# Altium footprint library XILINX ARTIX-7 FPGA A704 Motherboard_CON.PcbLib: 2 footprints
Each footprint in its own frame and in the unit in brackets; x right, y up, seen from the top. Pads: shape width x height; smd on the part's side, far side on the other; paste and mask are expansions set on the pad; w line width, h text height; cw(c..) or ccw(c..) is an arc to the next point about the centre after c.
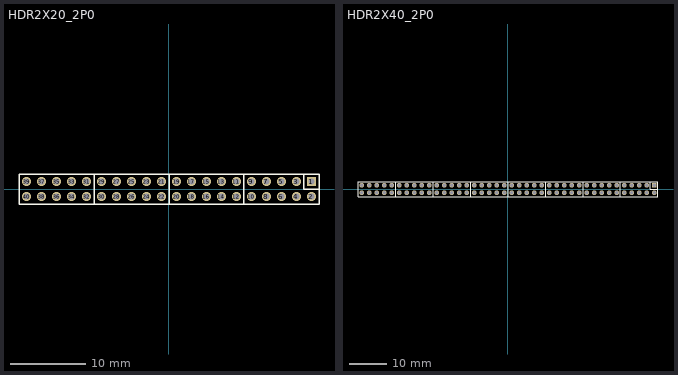
[diagram p0: the footprints below, top view; thin cyan lines are the x and y axes]

## HDR2X20_2P0 [mm] "HDR2X20_2P0"
pads (40):
  rect 1.2x1.2 hole 0.8: 1(19.005,1)
  round 1.2 hole 0.8: 2(19.005,-1) 3(17.005,1) 4(17.005,-1) 5(15.005,1) 6(15.005,-1) 7(13.005,1) 8(13.005,-1) 9(11.005,1) 10(11.005,-1) 11(9.005,1) 12(9.005,-1) 13(7.005,1) 14(7.005,-1) 15(5.005,1) 16(5.005,-1) 17(3.005,1) 18(3.005,-1) 19(1.005,1) 20(1.005,-1) 21(-0.995,1) 22(-0.995,-1) 23(-2.995,1) 24(-2.995,-1) 25(-4.995,1) 26(-4.995,-1) 27(-6.995,1) 28(-6.995,-1) 29(-8.995,1) 30(-8.995,-1) 31(-10.995,1) 32(-10.995,-1) 33(-12.995,1) 34(-12.995,-1) 35(-14.995,1) 36(-14.995,-1) 37(-16.995,1) 38(-16.995,-1) 39(-18.995,1) 40(-18.995,-1)
Top Overlay:
  lines w0.199: 18.005,0 20.005,0
  lines w0.2: -9.995,-2 -9.995,2 ; 0.005,-2 0.005,2 ; 10.005,-2 10.005,2 ; 18.005,0 18.005,2 ; -19.995,-2 -19.995,2 20.005,2 20.005,-2 -19.995,-2
Mechanical 11:
  text "15" at 5.005,0.492 h0.64
  text "16" at 5.005,-1.508 h0.64
  text "31" at -10.995,0.492 h0.64
  text "32" at -10.995,-1.508 h0.64
  text "33" at -12.995,0.492 h0.64
  text "34" at -12.995,-1.508 h0.64
  text "37" at -16.995,0.492 h0.64
  text "38" at -16.995,-1.508 h0.64
  text "35" at -14.995,0.492 h0.64
  text "36" at -14.995,-1.508 h0.64
  text "3" at 17.005,0.746 h0.64
  text "4" at 17.005,-1.254 h0.64
  text "7" at 13.005,0.746 h0.64
  text "8" at 13.005,-1.254 h0.64
  text "11" at 9.005,0.492 h0.64
  text "12" at 9.005,-1.508 h0.64
  text "9" at 11.005,0.746 h0.64
  text "10" at 11.005,-1.508 h0.64
  text "30" at -8.995,-1.508 h0.64
  text "29" at -8.995,0.492 h0.64
  text "22" at -0.995,-1.508 h0.64
  text "25" at -4.995,0.492 h0.64
  text "26" at -4.995,-1.508 h0.64
  text "21" at -0.995,0.492 h0.64
  text "24" at -2.995,-1.508 h0.64
  text "13" at 7.005,0.492 h0.64
  text "14" at 7.005,-1.508 h0.64
  text "18" at 3.005,-1.508 h0.64
  text "23" at -2.995,0.492 h0.64
  text "17" at 3.005,0.492 h0.64
  text "5" at 15.005,0.746 h0.64
  text "6" at 15.005,-1.254 h0.64
  text "27" at -6.995,0.492 h0.64
  text "28" at -6.995,-1.508 h0.64
  text "1" at 19.005,0.746 h0.64
  text "2" at 19.005,-1.254 h0.64
  text "20" at 1.005,-1.508 h0.64
  text "19" at 1.005,0.492 h0.64
  text "40" at -18.995,-1.508 h0.64
  text "39" at -18.995,0.492 h0.64

## HDR2X40_2P0 [mil] "HDR2X40_2P0"
pads (80):
  rect 47.24x47.24 hole 31.5: 1(1535.46,39.37)
  round 47.24 hole 31.5: 2(1535.46,-39.37) 3(1456.72,39.37) 4(1456.72,-39.37) 5(1377.98,39.37) 6(1377.98,-39.37) 7(1299.24,39.37) 8(1299.24,-39.37) 9(1220.5,39.37) 10(1220.5,-39.37) 11(1141.76,39.37) 12(1141.76,-39.37) 13(1063.02,39.37) 14(1063.02,-39.37) 15(984.28,39.37) 16(984.28,-39.37) 17(905.54,39.37) 18(905.54,-39.37) 19(826.8,39.37) 20(826.8,-39.37) 21(748.06,39.37) 22(748.06,-39.37) 23(669.32,39.37) 24(669.32,-39.37) 25(590.58,39.37) 26(590.58,-39.37) 27(511.84,39.37) 28(511.84,-39.37) 29(433.1,39.37) 30(433.1,-39.37) 31(354.36,39.37) 32(354.36,-39.37) 33(275.62,39.37) 34(275.62,-39.37) 35(196.88,39.37) 36(196.88,-39.37) 37(118.14,39.37) 38(118.14,-39.37) 39(39.4,39.37) 40(39.4,-39.37) 41(-39.34,39.37) 42(-39.34,-39.37) 43(-118.08,39.37) 44(-118.08,-39.37) 45(-196.82,39.37) 46(-196.82,-39.37) 47(-275.56,39.37) 48(-275.56,-39.37) 49(-354.3,39.37) 50(-354.3,-39.37) 51(-433.04,39.37) 52(-433.04,-39.37) 53(-511.78,39.37) 54(-511.78,-39.37) 55(-590.52,39.37) 56(-590.52,-39.37) 57(-669.26,39.37) 58(-669.26,-39.37) 59(-748,39.37) 60(-748,-39.37) 61(-826.74,39.37) 62(-826.74,-39.37) 63(-905.48,39.37) 64(-905.48,-39.37) 65(-984.22,39.37) 66(-984.22,-39.37) 67(-1062.96,39.37) 68(-1062.96,-39.37) 69(-1141.7,39.37) 70(-1141.7,-39.37) 71(-1220.44,39.37) 72(-1220.44,-39.37) 73(-1299.18,39.37) 74(-1299.18,-39.37) 75(-1377.92,39.37) 76(-1377.92,-39.37) 77(-1456.66,39.37) 78(-1456.66,-39.37) 79(-1535.4,39.37) 80(-1535.4,-39.37)
Top Overlay:
  lines w7.84: -787.37,-78.74 1574.83,-78.74 ; -787.37,78.74 1574.83,78.74 ; 1496.09,0 1574.83,0
  lines w7.87: -1574.77,-78.74 -1574.77,78.74 ; -1181.07,-78.74 -1181.07,78.74 ; -787.37,-78.74 -787.37,78.74 ; -393.67,-78.74 -393.67,78.74 ; 0.03,-78.74 0.03,78.74 ; 393.73,-78.74 393.73,78.74 ; 787.43,-78.74 787.43,78.74 ; 1181.13,-78.74 1181.13,78.74 ; 1496.09,0 1496.09,78.74 ; 1574.83,-78.74 1574.83,78.74
  lines w8: -1574.77,-78.74 -1181.07,-78.74 -787.37,-78.74 ; -1574.77,78.74 -1181.07,78.74 -787.37,78.74
Mechanical 11:
  text "43" at -98.08,39.37 h25
  text "51" at -413.04,39.37 h25
  text "52" at -413.04,-39.37 h25
  text "73" at -1279.18,39.37 h25
  text "74" at -1279.18,-39.37 h25
  text "13" at 1083.02,39.37 h25
  text "14" at 1083.02,-39.37 h25
  text "9" at 1230.5,39.37 h25
  text "29" at 453.1,39.37 h25
  text "48" at -255.56,-39.37 h25
  text "47" at -255.56,39.37 h25
  text "31" at 374.36,39.37 h25
  text "35" at 216.88,39.37 h25
  text "37" at 138.14,39.37 h25
  text "41" at -19.34,39.37 h25
  text "33" at 295.62,39.37 h25
  text "46" at -176.82,-39.37 h25
  text "32" at 374.36,-39.37 h25
  text "62" at -806.74,-39.37 h25
  text "44" at -98.08,-39.37 h25
  text "42" at -19.34,-39.37 h25
  text "34" at 295.62,-39.37 h25
  text "30" at 453.1,-39.37 h25
  text "36" at 216.88,-39.37 h25
  text "61" at -806.74,39.37 h25
  text "45" at -176.82,39.37 h25
  text "38" at 138.14,-39.37 h25
  text "50" at -334.3,-39.37 h25
  text "49" at -334.3,39.37 h25
  text "77" at -1436.66,39.37 h25
  text "54" at -491.78,-39.37 h25
  text "75" at -1357.92,39.37 h25
  text "76" at -1357.92,-39.37 h25
  text "53" at -491.78,39.37 h25
  text "78" at -1436.66,-39.37 h25
  text "55" at -570.52,39.37 h25
  text "71" at -1200.44,39.37 h25
  text "58" at -649.26,-39.37 h25
  text "64" at -885.48,-39.37 h25
  text "57" at -649.26,39.37 h25
  text "63" at -885.48,39.37 h25
  text "72" at -1200.44,-39.37 h25
  text "68" at -1042.96,-39.37 h25
  text "67" at -1042.96,39.37 h25
  text "70" at -1121.7,-39.37 h25
  text "56" at -570.52,-39.37 h25
  text "65" at -964.22,39.37 h25
  text "69" at -1121.7,39.37 h25
  text "66" at -964.22,-39.37 h25
  text "16" at 1004.28,-39.37 h25
  text "15" at 1004.28,39.37 h25
  text "23" at 689.32,39.37 h25
  text "12" at 1161.76,-39.37 h25
  text "24" at 689.32,-39.37 h25
  text "17" at 925.54,39.37 h25
  text "18" at 925.54,-39.37 h25
  text "21" at 768.06,39.37 h25
  text "26" at 610.58,-39.37 h25
  text "25" at 610.58,39.37 h25
  text "27" at 531.84,39.37 h25
  text "22" at 768.06,-39.37 h25
  text "28" at 531.84,-39.37 h25
  text "11" at 1161.76,39.37 h25
  text "10" at 1240.5,-39.37 h25
  text "3" at 1466.72,39.37 h25
  text "7" at 1309.24,39.37 h25
  text "4" at 1466.72,-39.37 h25
  text "6" at 1387.98,-39.37 h25
  text "5" at 1387.98,39.37 h25
  text "1" at 1545.46,39.37 h25
  text "2" at 1545.46,-39.37 h25
  text "8" at 1309.24,-39.37 h25
  text "60" at -728,-39.37 h25
  text "40" at 59.4,-39.37 h25
  text "20" at 846.8,-39.37 h25
  text "59" at -728,39.37 h25
  text "39" at 59.4,39.37 h25
  text "19" at 846.8,39.37 h25
  text "80" at -1515.4,-39.37 h25
  text "79" at -1515.4,39.37 h25